# EAGLE library part EPG.00.302.HLN (library lplemo)
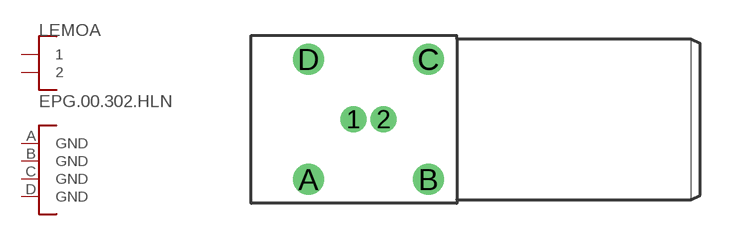
[diagram p0: symbol with the pads of P18-EPG-XBG-XRB.00.302; footprint P18-EPG-XBG-XRB.00.302]

Designator prefix LEMO; gates A=C2 B=GND4

## EPG.00.302.HLN  [P18-EPG-XBG-XRB.00.302]
1  A:1
2  A:2
A  B:GND  pwr
B  B:GND  pwr
C  B:GND  pwr
D  B:GND  pwr

## Footprint P18-EPG-XBG-XRB.00.302 (pad centres in mm)
drill 0.6 round: 1 -3.175,0; 2 -1.905,0
drill 0.8 round: A -5.08,-2.54; B 0,-2.54; C 0,2.54; D -5.08,2.54